# Altium integrated library Altium_WCAP-CSGP (rev21d).IntLib: 945 symbols (part 8 of 17)
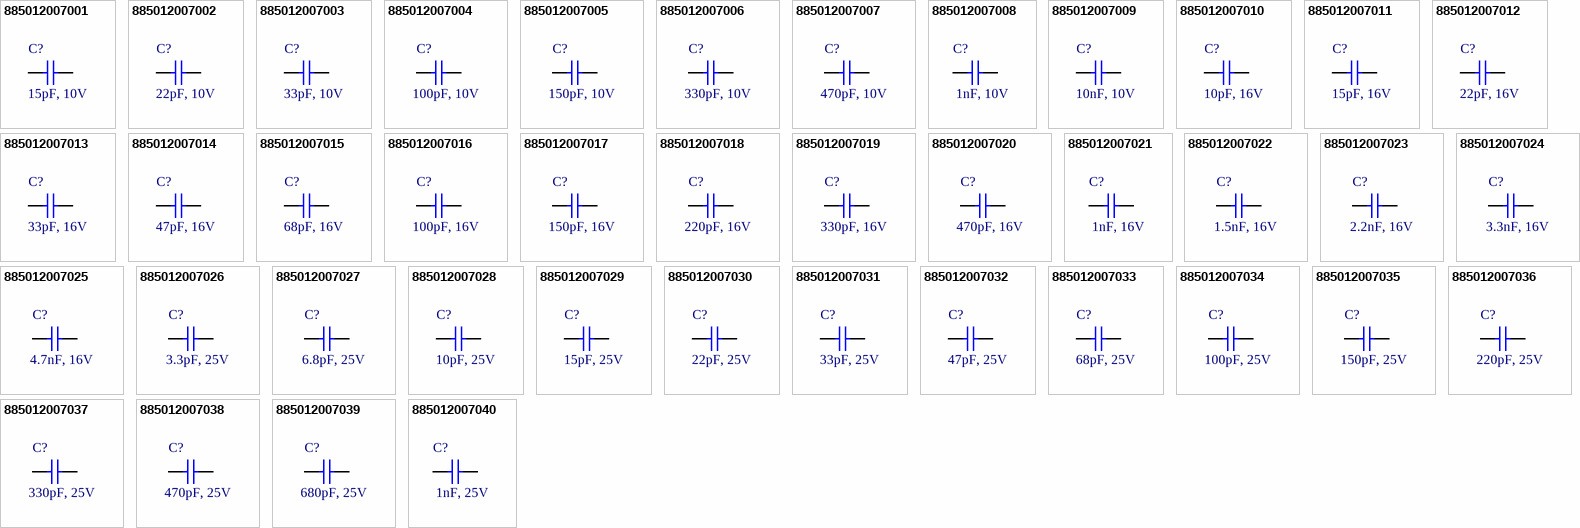
[diagram p34: symbols 885012007001 to 885012007040]

## 885012007028
designator C?, comment 10pF, 25V
WCAP-CSGP Multilayer Ceramic Chip Capacitor, General Purpose, size 0805, NP0, 10pF, 25V; Manufacturer Part Number: 885012007028; Manufacturer: Wurth Elektronik; Rated Voltage: 25VDC; Isolation Resistance  min.: 10GOhm; Capacitance Tolerance: +/-5%; Technical Reference: NP00805100J025DFCT10000; Q-Factor min.: 400+20C; ComponentLink1Description: Manufacturer; ComponentLink1URL: http://www.we-online.de; ComponentLink2Description: Datasheet; ComponentLink2URL: https://www.we-online.com/catalog/datasheet/885012007028.pdf; Operating Temperature: -55 to +125degC; Packaging: Tape and Reel; Published Date: April 2021; Ceramic Type: NP0; Dissipation Factor max.: -; Height: 0.6mm; Mounting Technology: SMT; Size: 0805; Capacitance: 10pF
footprint WCAP-CSGP_0805_H=0.6mm_Wave
footprint WCAP-CSGP_0805_H=0.6mm_Reflow
pins: 1, 2

## 885012007029
designator C?, comment 15pF, 25V
WCAP-CSGP Multilayer Ceramic Chip Capacitor, General Purpose, size 0805, NP0, 15pF, 25V; Manufacturer Part Number: 885012007029; Manufacturer: Wurth Elektronik; Rated Voltage: 25VDC; Isolation Resistance  min.: 10GOhm; Capacitance Tolerance: +/-5%; Technical Reference: NP00805150J025DFCT10000; Q-Factor min.: 400+20C; ComponentLink1Description: Manufacturer; ComponentLink1URL: http://www.we-online.de; ComponentLink2Description: Datasheet; ComponentLink2URL: https://www.we-online.com/catalog/datasheet/885012007029.pdf; Operating Temperature: -55 to +125degC; Packaging: Tape and Reel; Published Date: April 2021; Ceramic Type: NP0; Dissipation Factor max.: -; Height: 0.6mm; Mounting Technology: SMT; Size: 0805; Capacitance: 15pF
footprint WCAP-CSGP_0805_H=0.6mm_Wave
footprint WCAP-CSGP_0805_H=0.6mm_Reflow
pins: 1, 2

## 885012007030
designator C?, comment 22pF, 25V
WCAP-CSGP Multilayer Ceramic Chip Capacitor, General Purpose, size 0805, NP0, 22pF, 25V; Manufacturer Part Number: 885012007030; Manufacturer: Wurth Elektronik; Rated Voltage: 25VDC; Isolation Resistance  min.: 10GOhm; Capacitance Tolerance: +/-5%; Technical Reference: NP00805220J025DFCT10000; Q-Factor min.: 400+20C; ComponentLink1Description: Manufacturer; ComponentLink1URL: http://www.we-online.de; ComponentLink2Description: Datasheet; ComponentLink2URL: https://www.we-online.com/catalog/datasheet/885012007030.pdf; Operating Temperature: -55 to +125degC; Packaging: Tape and Reel; Published Date: April 2021; Ceramic Type: NP0; Dissipation Factor max.: -; Height: 0.6mm; Mounting Technology: SMT; Size: 0805; Capacitance: 22pF
footprint WCAP-CSGP_0805_H=0.6mm_Wave
footprint WCAP-CSGP_0805_H=0.6mm_Reflow
pins: 1, 2

## 885012007031
designator C?, comment 33pF, 25V
WCAP-CSGP Multilayer Ceramic Chip Capacitor, General Purpose, size 0805, NP0, 33pF, 25V; Manufacturer Part Number: 885012007031; Manufacturer: Wurth Elektronik; Rated Voltage: 25VDC; Isolation Resistance  min.: 10GOhm; Capacitance Tolerance: +/-5%; Technical Reference: NP00805330J025DFCT10000; Q-Factor min.: 1000; ComponentLink1Description: Manufacturer; ComponentLink1URL: http://www.we-online.de; ComponentLink2Description: Datasheet; ComponentLink2URL: https://www.we-online.com/catalog/datasheet/885012007031.pdf; Operating Temperature: -55 to +125degC; Packaging: Tape and Reel; Published Date: April 2021; Ceramic Type: NP0; Dissipation Factor max.: -; Height: 0.6mm; Mounting Technology: SMT; Size: 0805; Capacitance: 33pF
footprint WCAP-CSGP_0805_H=0.6mm_Wave
footprint WCAP-CSGP_0805_H=0.6mm_Reflow
pins: 1, 2

## 885012007032
designator C?, comment 47pF, 25V
WCAP-CSGP Multilayer Ceramic Chip Capacitor, General Purpose, size 0805, NP0, 47pF, 25V; Manufacturer Part Number: 885012007032; Manufacturer: Wurth Elektronik; Rated Voltage: 25VDC; Isolation Resistance  min.: 10GOhm; Capacitance Tolerance: +/-5%; Technical Reference: NP00805470J025DFCT10000; Q-Factor min.: 1000; ComponentLink1Description: Manufacturer; ComponentLink1URL: http://www.we-online.de; ComponentLink2Description: Datasheet; ComponentLink2URL: https://www.we-online.com/catalog/datasheet/885012007032.pdf; Operating Temperature: -55 to +125degC; Packaging: Tape and Reel; Published Date: April 2021; Ceramic Type: NP0; Dissipation Factor max.: -; Height: 0.6mm; Mounting Technology: SMT; Size: 0805; Capacitance: 47pF
footprint WCAP-CSGP_0805_H=0.6mm_Wave
footprint WCAP-CSGP_0805_H=0.6mm_Reflow
pins: 1, 2

## 885012007033
designator C?, comment 68pF, 25V
WCAP-CSGP Multilayer Ceramic Chip Capacitor, General Purpose, size 0805, NP0, 68pF, 25V; Manufacturer Part Number: 885012007033; Manufacturer: Wurth Elektronik; Rated Voltage: 25VDC; Isolation Resistance  min.: 10GOhm; Capacitance Tolerance: +/-5%; Technical Reference: NP00805680J025DFCT10000; Q-Factor min.: 1000; ComponentLink1Description: Manufacturer; ComponentLink1URL: http://www.we-online.de; ComponentLink2Description: Datasheet; ComponentLink2URL: https://www.we-online.com/catalog/datasheet/885012007033.pdf; Operating Temperature: -55 to +125degC; Packaging: Tape and Reel; Published Date: April 2021; Ceramic Type: NP0; Dissipation Factor max.: -; Height: 0.6mm; Mounting Technology: SMT; Size: 0805; Capacitance: 68pF
footprint WCAP-CSGP_0805_H=0.6mm_Wave
footprint WCAP-CSGP_0805_H=0.6mm_Reflow
pins: 1, 2

## 885012007034
designator C?, comment 100pF, 25V
WCAP-CSGP Multilayer Ceramic Chip Capacitor, General Purpose, size 0805, NP0, 100pF, 25V; Manufacturer Part Number: 885012007034; Manufacturer: Wurth Elektronik; Rated Voltage: 25VDC; Isolation Resistance  min.: 10GOhm; Capacitance Tolerance: +/-5%; Technical Reference: NP00805101J025DFCT10000; Q-Factor min.: 1000; ComponentLink1Description: Manufacturer; ComponentLink1URL: http://www.we-online.de; ComponentLink2Description: Datasheet; ComponentLink2URL: https://www.we-online.com/catalog/datasheet/885012007034.pdf; Operating Temperature: -55 to +125degC; Packaging: Tape and Reel; Published Date: April 2021; Ceramic Type: NP0; Dissipation Factor max.: -; Height: 0.6mm; Mounting Technology: SMT; Size: 0805; Capacitance: 100pF
footprint WCAP-CSGP_0805_H=0.6mm_Wave
footprint WCAP-CSGP_0805_H=0.6mm_Reflow
pins: 1, 2

## 885012007035
designator C?, comment 150pF, 25V
WCAP-CSGP Multilayer Ceramic Chip Capacitor, General Purpose, size 0805, NP0, 150pF, 25V; Manufacturer Part Number: 885012007035; Manufacturer: Wurth Elektronik; Rated Voltage: 25VDC; Isolation Resistance  min.: 10GOhm; Capacitance Tolerance: +/-5%; Technical Reference: NP00805151J025DFCT10000; Q-Factor min.: 1000; ComponentLink1Description: Manufacturer; ComponentLink1URL: http://www.we-online.de; ComponentLink2Description: Datasheet; ComponentLink2URL: https://www.we-online.com/catalog/datasheet/885012007035.pdf; Operating Temperature: -55 to +125degC; Packaging: Tape and Reel; Published Date: April 2021; Ceramic Type: NP0; Dissipation Factor max.: -; Height: 0.6mm; Mounting Technology: SMT; Size: 0805; Capacitance: 150pF
footprint WCAP-CSGP_0805_H=0.6mm_Wave
footprint WCAP-CSGP_0805_H=0.6mm_Reflow
pins: 1, 2

## 885012007036
designator C?, comment 220pF, 25V
WCAP-CSGP Multilayer Ceramic Chip Capacitor, General Purpose, size 0805, NP0, 220pF, 25V; Manufacturer Part Number: 885012007036; Manufacturer: Wurth Elektronik; Rated Voltage: 25VDC; Isolation Resistance  min.: 10GOhm; Capacitance Tolerance: +/-5%; Technical Reference: NP00805221J025DFCT10000; Q-Factor min.: 1000; ComponentLink1Description: Manufacturer; ComponentLink1URL: http://www.we-online.de; ComponentLink2Description: Datasheet; ComponentLink2URL: https://www.we-online.com/catalog/datasheet/885012007036.pdf; Operating Temperature: -55 to +125degC; Packaging: Tape and Reel; Published Date: April 2021; Ceramic Type: NP0; Dissipation Factor max.: -; Height: 0.6mm; Mounting Technology: SMT; Size: 0805; Capacitance: 220pF
footprint WCAP-CSGP_0805_H=0.6mm_Wave
footprint WCAP-CSGP_0805_H=0.6mm_Reflow
pins: 1, 2

## 885012007037
designator C?, comment 330pF, 25V
WCAP-CSGP Multilayer Ceramic Chip Capacitor, General Purpose, size 0805, NP0, 330pF, 25V; Manufacturer Part Number: 885012007037; Manufacturer: Wurth Elektronik; Rated Voltage: 25VDC; Isolation Resistance  min.: 10GOhm; Capacitance Tolerance: +/-5%; Technical Reference: NP00805331J025DFCT10000; Q-Factor min.: 1000; ComponentLink1Description: Manufacturer; ComponentLink1URL: http://www.we-online.de; ComponentLink2Description: Datasheet; ComponentLink2URL: https://www.we-online.com/catalog/datasheet/885012007037.pdf; Operating Temperature: -55 to +125degC; Packaging: Tape and Reel; Published Date: April 2021; Ceramic Type: NP0; Dissipation Factor max.: -; Height: 0.6mm; Mounting Technology: SMT; Size: 0805; Capacitance: 330pF
footprint WCAP-CSGP_0805_H=0.6mm_Wave
footprint WCAP-CSGP_0805_H=0.6mm_Reflow
pins: 1, 2

## 885012007038
designator C?, comment 470pF, 25V
WCAP-CSGP Multilayer Ceramic Chip Capacitor, General Purpose, size 0805, NP0, 470pF, 25V; Manufacturer Part Number: 885012007038; Manufacturer: Wurth Elektronik; Rated Voltage: 25VDC; Isolation Resistance  min.: 10GOhm; Capacitance Tolerance: +/-5%; Technical Reference: NP00805471J025DFCT10000; Q-Factor min.: 1000; ComponentLink1Description: Manufacturer; ComponentLink1URL: http://www.we-online.de; ComponentLink2Description: Datasheet; ComponentLink2URL: https://www.we-online.com/catalog/datasheet/885012007038.pdf; Operating Temperature: -55 to +125degC; Packaging: Tape and Reel; Published Date: April 2021; Ceramic Type: NP0; Dissipation Factor max.: -; Height: 0.8mm; Mounting Technology: SMT; Size: 0805; Capacitance: 470pF
footprint WCAP-CSGP_0805_H=0.8mm_Wave
footprint WCAP-CSGP_0805_H=0.8mm_Reflow
pins: 1, 2

## 885012007039
designator C?, comment 680pF, 25V
WCAP-CSGP Multilayer Ceramic Chip Capacitor, General Purpose, size 0805, NP0, 680pF, 25V; Manufacturer Part Number: 885012007039; Manufacturer: Wurth Elektronik; Rated Voltage: 25VDC; Isolation Resistance  min.: 10GOhm; Capacitance Tolerance: +/-5%; Technical Reference: NP00805681J025DFCT10000; Q-Factor min.: 1000; ComponentLink1Description: Manufacturer; ComponentLink1URL: http://www.we-online.de; ComponentLink2Description: Datasheet; ComponentLink2URL: https://www.we-online.com/catalog/datasheet/885012007039.pdf; Operating Temperature: -55 to +125degC; Packaging: Tape and Reel; Published Date: April 2021; Ceramic Type: NP0; Dissipation Factor max.: -; Height: 0.8mm; Mounting Technology: SMT; Size: 0805; Capacitance: 680pF
footprint WCAP-CSGP_0805_H=0.8mm_Wave
footprint WCAP-CSGP_0805_H=0.8mm_Reflow
pins: 1, 2

## 885012007040
designator C?, comment 1nF, 25V
WCAP-CSGP Multilayer Ceramic Chip Capacitor, General Purpose, size 0805, NP0, 1nF, 25V; Manufacturer Part Number: 885012007040; Manufacturer: Wurth Elektronik; Rated Voltage: 25VDC; Isolation Resistance  min.: 10GOhm; Capacitance Tolerance: +/-5%; Technical Reference: NP00805102J025DFCT10000; Q-Factor min.: 1000; ComponentLink1Description: Manufacturer; ComponentLink1URL: http://www.we-online.de; ComponentLink2Description: Datasheet; ComponentLink2URL: https://www.we-online.com/catalog/datasheet/885012007040.pdf; Operating Temperature: -55 to +125degC; Packaging: Tape and Reel; Published Date: April 2021; Ceramic Type: NP0; Dissipation Factor max.: -; Height: 0.8mm; Mounting Technology: SMT; Size: 0805; Capacitance: 1nF
footprint WCAP-CSGP_0805_H=0.8mm_Wave
footprint WCAP-CSGP_0805_H=0.8mm_Reflow
pins: 1, 2

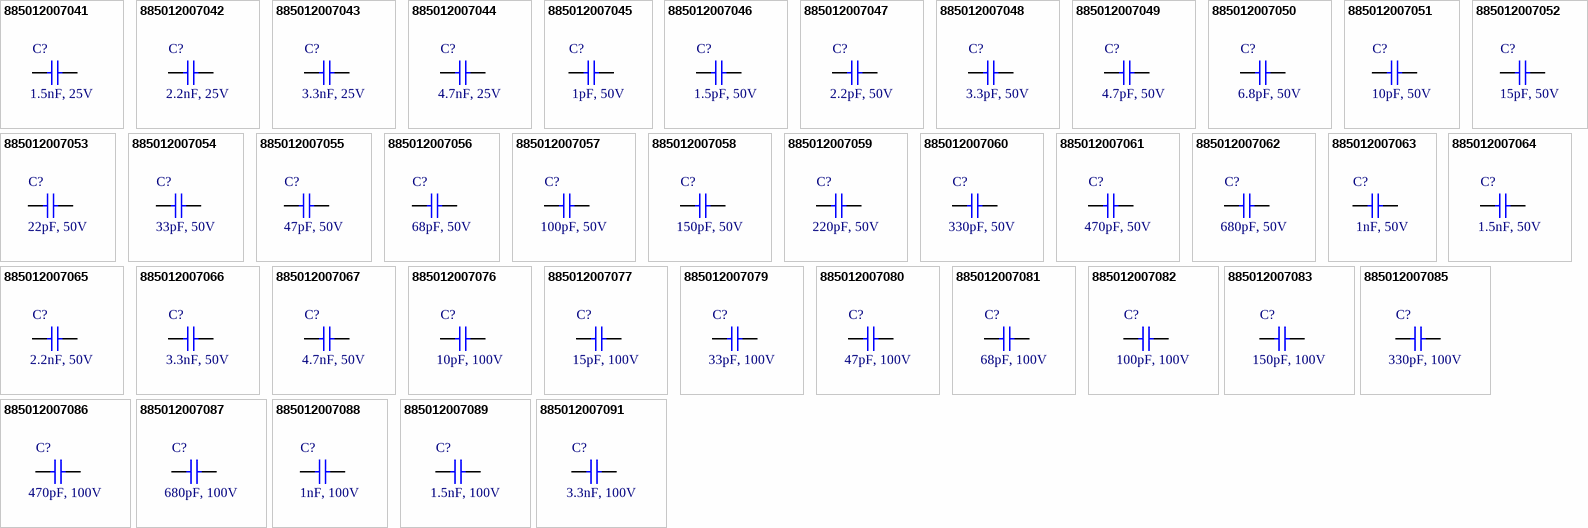
[diagram p12: symbols 885012007041 to 885012007091]

## 885012007041
designator C?, comment 1.5nF, 25V
WCAP-CSGP Multilayer Ceramic Chip Capacitor, General Purpose, size 0805, NP0, 1.5nF, 25V; Manufacturer Part Number: 885012007041; Manufacturer: Wurth Elektronik; Rated Voltage: 25VDC; Isolation Resistance  min.: 10GOhm; Capacitance Tolerance: +/-5%; Technical Reference: NP00805152J025DFCT10000; Q-Factor min.: 1000; ComponentLink1Description: Manufacturer; ComponentLink1URL: http://www.we-online.de; ComponentLink2Description: Datasheet; ComponentLink2URL: https://www.we-online.com/catalog/datasheet/885012007041.pdf; Operating Temperature: -55 to +125degC; Packaging: Tape and Reel; Published Date: April 2021; Ceramic Type: NP0; Dissipation Factor max.: -; Height: 0.8mm; Mounting Technology: SMT; Size: 0805; Capacitance: 1.5nF
footprint WCAP-CSGP_0805_H=0.8mm_Wave
footprint WCAP-CSGP_0805_H=0.8mm_Reflow
pins: 1, 2

## 885012007042
designator C?, comment 2.2nF, 25V
WCAP-CSGP Multilayer Ceramic Chip Capacitor, General Purpose, size 0805, NP0, 2.2nF, 25V; Manufacturer Part Number: 885012007042; Manufacturer: Wurth Elektronik; Rated Voltage: 25VDC; Isolation Resistance  min.: 10GOhm; Capacitance Tolerance: +/-5%; Technical Reference: NP00805222J025DFCT10000; Q-Factor min.: 1000; ComponentLink1Description: Manufacturer; ComponentLink1URL: http://www.we-online.de; ComponentLink2Description: Datasheet; ComponentLink2URL: https://www.we-online.com/catalog/datasheet/885012007042.pdf; Operating Temperature: -55 to +125degC; Packaging: Tape and Reel; Published Date: April 2021; Ceramic Type: NP0; Dissipation Factor max.: -; Height: 0.8mm; Mounting Technology: SMT; Size: 0805; Capacitance: 2.2nF
footprint WCAP-CSGP_0805_H=0.8mm_Wave
footprint WCAP-CSGP_0805_H=0.8mm_Reflow
pins: 1, 2

## 885012007043
designator C?, comment 3.3nF, 25V
WCAP-CSGP Multilayer Ceramic Chip Capacitor, General Purpose, size 0805, NP0, 3.3nF, 25V; Manufacturer Part Number: 885012007043; Manufacturer: Wurth Elektronik; Rated Voltage: 25VDC; Isolation Resistance  min.: 10GOhm; Capacitance Tolerance: +/-5%; Technical Reference: NP00805332J025DFCT10000; Q-Factor min.: 1000; ComponentLink1Description: Manufacturer; ComponentLink1URL: http://www.we-online.de; ComponentLink2Description: Datasheet; ComponentLink2URL: https://www.we-online.com/catalog/datasheet/885012007043.pdf; Operating Temperature: -55 to +125degC; Packaging: Tape and Reel; Published Date: April 2021; Ceramic Type: NP0; Dissipation Factor max.: -; Height: 1.25mm; Mounting Technology: SMT; Size: 0805; Capacitance: 3.3nF
footprint WCAP-CSGP_0805_H=1.25mm
pins: 1, 2

## 885012007044
designator C?, comment 4.7nF, 25V
WCAP-CSGP Multilayer Ceramic Chip Capacitor, General Purpose, size 0805, NP0, 4.7nF, 25V; Manufacturer Part Number: 885012007044; Manufacturer: Wurth Elektronik; Rated Voltage: 25VDC; Isolation Resistance  min.: 10GOhm; Capacitance Tolerance: +/-5%; Technical Reference: NP00805472J025DFCT10000; Q-Factor min.: 1000; ComponentLink1Description: Manufacturer; ComponentLink1URL: http://www.we-online.de; ComponentLink2Description: Datasheet; ComponentLink2URL: https://www.we-online.com/catalog/datasheet/885012007044.pdf; Operating Temperature: -55 to +125degC; Packaging: Tape and Reel; Published Date: April 2021; Ceramic Type: NP0; Dissipation Factor max.: -; Height: 1.25mm; Mounting Technology: SMT; Size: 0805; Capacitance: 4.7nF
footprint WCAP-CSGP_0805_H=1.25mm
pins: 1, 2

## 885012007045
designator C?, comment 1pF, 50V
WCAP-CSGP Multilayer Ceramic Chip Capacitor, General Purpose, size 0805, NP0, 1pF, 50V; Manufacturer Part Number: 885012007045; Manufacturer: Wurth Elektronik; Rated Voltage: 50VDC; Isolation Resistance  min.: 10GOhm; Capacitance Tolerance: +/-0.5pF; Technical Reference: NP008051R0D050DFCT10000; Q-Factor min.: 400+20C; ComponentLink1Description: Manufacturer; ComponentLink1URL: http://www.we-online.de; ComponentLink2Description: Datasheet; ComponentLink2URL: https://www.we-online.com/catalog/datasheet/885012007045.pdf; Operating Temperature: -55 to +125degC; Packaging: Tape and Reel; Published Date: April 2021; Ceramic Type: NP0; Dissipation Factor max.: -; Height: 0.6mm; Mounting Technology: SMT; Size: 0805; Capacitance: 1pF
footprint WCAP-CSGP_0805_H=0.6mm_Wave
footprint WCAP-CSGP_0805_H=0.6mm_Reflow
pins: 1, 2

## 885012007046
designator C?, comment 1.5pF, 50V
WCAP-CSGP Multilayer Ceramic Chip Capacitor, General Purpose, size 0805, NP0, 1.5pF, 50V; Manufacturer Part Number: 885012007046; Manufacturer: Wurth Elektronik; Rated Voltage: 50VDC; Isolation Resistance  min.: 10GOhm; Capacitance Tolerance: +/-0.5pF; Technical Reference: NP008051R5D050DFCT10000; Q-Factor min.: 400+20C; ComponentLink1Description: Manufacturer; ComponentLink1URL: http://www.we-online.de; ComponentLink2Description: Datasheet; ComponentLink2URL: https://www.we-online.com/catalog/datasheet/885012007046.pdf; Operating Temperature: -55 to +125degC; Packaging: Tape and Reel; Published Date: April 2021; Ceramic Type: NP0; Dissipation Factor max.: -; Height: 0.6mm; Mounting Technology: SMT; Size: 0805; Capacitance: 1.5pF
footprint WCAP-CSGP_0805_H=0.6mm_Wave
footprint WCAP-CSGP_0805_H=0.6mm_Reflow
pins: 1, 2

## 885012007047
designator C?, comment 2.2pF, 50V
WCAP-CSGP Multilayer Ceramic Chip Capacitor, General Purpose, size 0805, NP0, 2.2pF, 50V; Manufacturer Part Number: 885012007047; Manufacturer: Wurth Elektronik; Rated Voltage: 50VDC; Isolation Resistance  min.: 10GOhm; Capacitance Tolerance: +/-0.5pF; Technical Reference: NP008052R2D050DFCT10000; Q-Factor min.: 400+20C; ComponentLink1Description: Manufacturer; ComponentLink1URL: http://www.we-online.de; ComponentLink2Description: Datasheet; ComponentLink2URL: https://www.we-online.com/catalog/datasheet/885012007047.pdf; Operating Temperature: -55 to +125degC; Packaging: Tape and Reel; Published Date: April 2021; Ceramic Type: NP0; Dissipation Factor max.: -; Height: 0.6mm; Mounting Technology: SMT; Size: 0805; Capacitance: 2.2pF
footprint WCAP-CSGP_0805_H=0.6mm_Wave
footprint WCAP-CSGP_0805_H=0.6mm_Reflow
pins: 1, 2

## 885012007048
designator C?, comment 3.3pF, 50V
WCAP-CSGP Multilayer Ceramic Chip Capacitor, General Purpose, size 0805, NP0, 3.3pF, 50V; Manufacturer Part Number: 885012007048; Manufacturer: Wurth Elektronik; Rated Voltage: 50VDC; Isolation Resistance  min.: 10GOhm; Capacitance Tolerance: +/-0.5pF; Technical Reference: NP008053R3D050DFCT10000; Q-Factor min.: 400+20C; ComponentLink1Description: Manufacturer; ComponentLink1URL: http://www.we-online.de; ComponentLink2Description: Datasheet; ComponentLink2URL: https://www.we-online.com/catalog/datasheet/885012007048.pdf; Operating Temperature: -55 to +125degC; Packaging: Tape and Reel; Published Date: April 2021; Ceramic Type: NP0; Dissipation Factor max.: -; Height: 0.6mm; Mounting Technology: SMT; Size: 0805; Capacitance: 3.3pF
footprint WCAP-CSGP_0805_H=0.6mm_Wave
footprint WCAP-CSGP_0805_H=0.6mm_Reflow
pins: 1, 2

## 885012007049
designator C?, comment 4.7pF, 50V
WCAP-CSGP Multilayer Ceramic Chip Capacitor, General Purpose, size 0805, NP0, 4.7pF, 50V; Manufacturer Part Number: 885012007049; Manufacturer: Wurth Elektronik; Rated Voltage: 50VDC; Isolation Resistance  min.: 10GOhm; Capacitance Tolerance: +/-0.5pF; Technical Reference: NP008054R7D050DFCT10000; Q-Factor min.: 400+20C; ComponentLink1Description: Manufacturer; ComponentLink1URL: http://www.we-online.de; ComponentLink2Description: Datasheet; ComponentLink2URL: https://www.we-online.com/catalog/datasheet/885012007049.pdf; Operating Temperature: -55 to +125degC; Packaging: Tape and Reel; Published Date: April 2021; Ceramic Type: NP0; Dissipation Factor max.: -; Height: 0.6mm; Mounting Technology: SMT; Size: 0805; Capacitance: 4.7pF
footprint WCAP-CSGP_0805_H=0.6mm_Wave
footprint WCAP-CSGP_0805_H=0.6mm_Reflow
pins: 1, 2

## 885012007050
designator C?, comment 6.8pF, 50V
WCAP-CSGP Multilayer Ceramic Chip Capacitor, General Purpose, size 0805, NP0, 6.8pF, 50V; Manufacturer Part Number: 885012007050; Manufacturer: Wurth Elektronik; Rated Voltage: 50VDC; Isolation Resistance  min.: 10GOhm; Capacitance Tolerance: +/-0.5pF; Technical Reference: NP008056R8D050DFCT10000; Q-Factor min.: 400+20C; ComponentLink1Description: Manufacturer; ComponentLink1URL: http://www.we-online.de; ComponentLink2Description: Datasheet; ComponentLink2URL: https://www.we-online.com/catalog/datasheet/885012007050.pdf; Operating Temperature: -55 to +125degC; Packaging: Tape and Reel; Published Date: April 2021; Ceramic Type: NP0; Dissipation Factor max.: -; Height: 0.6mm; Mounting Technology: SMT; Size: 0805; Capacitance: 6.8pF
footprint WCAP-CSGP_0805_H=0.6mm_Wave
footprint WCAP-CSGP_0805_H=0.6mm_Reflow
pins: 1, 2

## 885012007051
designator C?, comment 10pF, 50V
WCAP-CSGP Multilayer Ceramic Chip Capacitor, General Purpose, size 0805, NP0, 10pF, 50V; Manufacturer Part Number: 885012007051; Manufacturer: Wurth Elektronik; Rated Voltage: 50VDC; Isolation Resistance  min.: 10GOhm; Capacitance Tolerance: +/-5%; Technical Reference: NP00805100J050DFCT10000; Q-Factor min.: 400+20C; ComponentLink1Description: Manufacturer; ComponentLink1URL: http://www.we-online.de; ComponentLink2Description: Datasheet; ComponentLink2URL: https://www.we-online.com/catalog/datasheet/885012007051.pdf; Operating Temperature: -55 to +125degC; Packaging: Tape and Reel; Published Date: April 2021; Ceramic Type: NP0; Dissipation Factor max.: -; Height: 0.6mm; Mounting Technology: SMT; Size: 0805; Capacitance: 10pF
footprint WCAP-CSGP_0805_H=0.6mm_Wave
footprint WCAP-CSGP_0805_H=0.6mm_Reflow
pins: 1, 2

## 885012007052
designator C?, comment 15pF, 50V
WCAP-CSGP Multilayer Ceramic Chip Capacitor, General Purpose, size 0805, NP0, 15pF, 50V; Manufacturer Part Number: 885012007052; Manufacturer: Wurth Elektronik; Rated Voltage: 50VDC; Isolation Resistance  min.: 10GOhm; Capacitance Tolerance: +/-5%; Technical Reference: NP00805150J050DFCT10000; Q-Factor min.: 400+20C; ComponentLink1Description: Manufacturer; ComponentLink1URL: http://www.we-online.de; ComponentLink2Description: Datasheet; ComponentLink2URL: https://www.we-online.com/catalog/datasheet/885012007052.pdf; Operating Temperature: -55 to +125degC; Packaging: Tape and Reel; Published Date: April 2021; Ceramic Type: NP0; Dissipation Factor max.: -; Height: 0.6mm; Mounting Technology: SMT; Size: 0805; Capacitance: 15pF
footprint WCAP-CSGP_0805_H=0.6mm_Wave
footprint WCAP-CSGP_0805_H=0.6mm_Reflow
pins: 1, 2

## 885012007053
designator C?, comment 22pF, 50V
WCAP-CSGP Multilayer Ceramic Chip Capacitor, General Purpose, size 0805, NP0, 22pF, 50V; Manufacturer Part Number: 885012007053; Manufacturer: Wurth Elektronik; Rated Voltage: 50VDC; Isolation Resistance  min.: 10GOhm; Capacitance Tolerance: +/-5%; Technical Reference: NP00805220J050DFCT10000; Q-Factor min.: 400+20C; ComponentLink1Description: Manufacturer; ComponentLink1URL: http://www.we-online.de; ComponentLink2Description: Datasheet; ComponentLink2URL: https://www.we-online.com/catalog/datasheet/885012007053.pdf; Operating Temperature: -55 to +125degC; Packaging: Tape and Reel; Published Date: April 2021; Ceramic Type: NP0; Dissipation Factor max.: -; Height: 0.6mm; Mounting Technology: SMT; Size: 0805; Capacitance: 22pF
footprint WCAP-CSGP_0805_H=0.6mm_Wave
footprint WCAP-CSGP_0805_H=0.6mm_Reflow
pins: 1, 2

## 885012007054
designator C?, comment 33pF, 50V
WCAP-CSGP Multilayer Ceramic Chip Capacitor, General Purpose, size 0805, NP0, 33pF, 50V; Manufacturer Part Number: 885012007054; Manufacturer: Wurth Elektronik; Rated Voltage: 50VDC; Isolation Resistance  min.: 10GOhm; Capacitance Tolerance: +/-5%; Technical Reference: NP00805330J050DFCT10000; Q-Factor min.: 1000; ComponentLink1Description: Manufacturer; ComponentLink1URL: http://www.we-online.de; ComponentLink2Description: Datasheet; ComponentLink2URL: https://www.we-online.com/catalog/datasheet/885012007054.pdf; Operating Temperature: -55 to +125degC; Packaging: Tape and Reel; Published Date: April 2021; Ceramic Type: NP0; Dissipation Factor max.: -; Height: 0.6mm; Mounting Technology: SMT; Size: 0805; Capacitance: 33pF
footprint WCAP-CSGP_0805_H=0.6mm_Wave
footprint WCAP-CSGP_0805_H=0.6mm_Reflow
pins: 1, 2

## 885012007055
designator C?, comment 47pF, 50V
WCAP-CSGP Multilayer Ceramic Chip Capacitor, General Purpose, size 0805, NP0, 47pF, 50V; Manufacturer Part Number: 885012007055; Manufacturer: Wurth Elektronik; Rated Voltage: 50VDC; Isolation Resistance  min.: 10GOhm; Capacitance Tolerance: +/-5%; Technical Reference: NP00805470J050DFCT10000; Q-Factor min.: 1000; ComponentLink1Description: Manufacturer; ComponentLink1URL: http://www.we-online.de; ComponentLink2Description: Datasheet; ComponentLink2URL: https://www.we-online.com/catalog/datasheet/885012007055.pdf; Operating Temperature: -55 to +125degC; Packaging: Tape and Reel; Published Date: April 2021; Ceramic Type: NP0; Dissipation Factor max.: -; Height: 0.6mm; Mounting Technology: SMT; Size: 0805; Capacitance: 47pF
footprint WCAP-CSGP_0805_H=0.6mm_Wave
footprint WCAP-CSGP_0805_H=0.6mm_Reflow
pins: 1, 2

## 885012007056
designator C?, comment 68pF, 50V
WCAP-CSGP Multilayer Ceramic Chip Capacitor, General Purpose, size 0805, NP0, 68pF, 50V; Manufacturer Part Number: 885012007056; Manufacturer: Wurth Elektronik; Rated Voltage: 50VDC; Isolation Resistance  min.: 10GOhm; Capacitance Tolerance: +/-5%; Technical Reference: NP00805680J050DFCT10000; Q-Factor min.: 1000; ComponentLink1Description: Manufacturer; ComponentLink1URL: http://www.we-online.de; ComponentLink2Description: Datasheet; ComponentLink2URL: https://www.we-online.com/catalog/datasheet/885012007056.pdf; Operating Temperature: -55 to +125degC; Packaging: Tape and Reel; Published Date: April 2021; Ceramic Type: NP0; Dissipation Factor max.: -; Height: 0.6mm; Mounting Technology: SMT; Size: 0805; Capacitance: 68pF
footprint WCAP-CSGP_0805_H=0.6mm_Wave
footprint WCAP-CSGP_0805_H=0.6mm_Reflow
pins: 1, 2

## 885012007057
designator C?, comment 100pF, 50V
WCAP-CSGP Multilayer Ceramic Chip Capacitor, General Purpose, size 0805, NP0, 100pF, 50V; Manufacturer Part Number: 885012007057; Manufacturer: Wurth Elektronik; Rated Voltage: 50VDC; Isolation Resistance  min.: 10GOhm; Capacitance Tolerance: +/-5%; Technical Reference: NP00805101J050DFCT10000; Q-Factor min.: 1000; ComponentLink1Description: Manufacturer; ComponentLink1URL: http://www.we-online.de; ComponentLink2Description: Datasheet; ComponentLink2URL: https://www.we-online.com/catalog/datasheet/885012007057.pdf; Operating Temperature: -55 to +125degC; Packaging: Tape and Reel; Published Date: April 2021; Ceramic Type: NP0; Dissipation Factor max.: -; Height: 0.6mm; Mounting Technology: SMT; Size: 0805; Capacitance: 100pF
footprint WCAP-CSGP_0805_H=0.6mm_Wave
footprint WCAP-CSGP_0805_H=0.6mm_Reflow
pins: 1, 2

## 885012007058
designator C?, comment 150pF, 50V
WCAP-CSGP Multilayer Ceramic Chip Capacitor, General Purpose, size 0805, NP0, 150pF, 50V; Manufacturer Part Number: 885012007058; Manufacturer: Wurth Elektronik; Rated Voltage: 50VDC; Isolation Resistance  min.: 10GOhm; Capacitance Tolerance: +/-5%; Technical Reference: NP00805151J050DFCT10000; Q-Factor min.: 1000; ComponentLink1Description: Manufacturer; ComponentLink1URL: http://www.we-online.de; ComponentLink2Description: Datasheet; ComponentLink2URL: https://www.we-online.com/catalog/datasheet/885012007058.pdf; Operating Temperature: -55 to +125degC; Packaging: Tape and Reel; Published Date: April 2021; Ceramic Type: NP0; Dissipation Factor max.: -; Height: 0.6mm; Mounting Technology: SMT; Size: 0805; Capacitance: 150pF
footprint WCAP-CSGP_0805_H=0.6mm_Wave
footprint WCAP-CSGP_0805_H=0.6mm_Reflow
pins: 1, 2

## 885012007059
designator C?, comment 220pF, 50V
WCAP-CSGP Multilayer Ceramic Chip Capacitor, General Purpose, size 0805, NP0, 220pF, 50V; Manufacturer Part Number: 885012007059; Manufacturer: Wurth Elektronik; Rated Voltage: 50VDC; Isolation Resistance  min.: 10GOhm; Capacitance Tolerance: +/-5%; Technical Reference: NP00805221J050DFCT10000; Q-Factor min.: 1000; ComponentLink1Description: Manufacturer; ComponentLink1URL: http://www.we-online.de; ComponentLink2Description: Datasheet; ComponentLink2URL: https://www.we-online.com/catalog/datasheet/885012007059.pdf; Operating Temperature: -55 to +125degC; Packaging: Tape and Reel; Published Date: April 2021; Ceramic Type: NP0; Dissipation Factor max.: -; Height: 0.6mm; Mounting Technology: SMT; Size: 0805; Capacitance: 220pF
footprint WCAP-CSGP_0805_H=0.6mm_Wave
footprint WCAP-CSGP_0805_H=0.6mm_Reflow
pins: 1, 2

## 885012007060
designator C?, comment 330pF, 50V
WCAP-CSGP Multilayer Ceramic Chip Capacitor, General Purpose, size 0805, NP0, 330pF, 50V; Manufacturer Part Number: 885012007060; Manufacturer: Wurth Elektronik; Rated Voltage: 50VDC; Isolation Resistance  min.: 10GOhm; Capacitance Tolerance: +/-5%; Technical Reference: NP00805331J050DFCT10000; Q-Factor min.: 1000; ComponentLink1Description: Manufacturer; ComponentLink1URL: http://www.we-online.de; ComponentLink2Description: Datasheet; ComponentLink2URL: https://www.we-online.com/catalog/datasheet/885012007060.pdf; Operating Temperature: -55 to +125degC; Packaging: Tape and Reel; Published Date: April 2021; Ceramic Type: NP0; Dissipation Factor max.: -; Height: 0.6mm; Mounting Technology: SMT; Size: 0805; Capacitance: 330pF
footprint WCAP-CSGP_0805_H=0.6mm_Wave
footprint WCAP-CSGP_0805_H=0.6mm_Reflow
pins: 1, 2

## 885012007061
designator C?, comment 470pF, 50V
WCAP-CSGP Multilayer Ceramic Chip Capacitor, General Purpose, size 0805, NP0, 470pF, 50V; Manufacturer Part Number: 885012007061; Manufacturer: Wurth Elektronik; Rated Voltage: 50VDC; Isolation Resistance  min.: 10GOhm; Capacitance Tolerance: +/-5%; Technical Reference: NP00805471J050DFCT10000; Q-Factor min.: 1000; ComponentLink1Description: Manufacturer; ComponentLink1URL: http://www.we-online.de; ComponentLink2Description: Datasheet; ComponentLink2URL: https://www.we-online.com/catalog/datasheet/885012007061.pdf; Operating Temperature: -55 to +125degC; Packaging: Tape and Reel; Published Date: April 2021; Ceramic Type: NP0; Dissipation Factor max.: -; Height: 0.8mm; Mounting Technology: SMT; Size: 0805; Capacitance: 470pF
footprint WCAP-CSGP_0805_H=0.8mm_Wave
footprint WCAP-CSGP_0805_H=0.8mm_Reflow
pins: 1, 2

## 885012007062
designator C?, comment 680pF, 50V
WCAP-CSGP Multilayer Ceramic Chip Capacitor, General Purpose, size 0805, NP0, 680pF, 50V; Manufacturer Part Number: 885012007062; Manufacturer: Wurth Elektronik; Rated Voltage: 50VDC; Isolation Resistance  min.: 10GOhm; Capacitance Tolerance: +/-5%; Technical Reference: NP00805681J050DFCT10000; Q-Factor min.: 1000; ComponentLink1Description: Manufacturer; ComponentLink1URL: http://www.we-online.de; ComponentLink2Description: Datasheet; ComponentLink2URL: https://www.we-online.com/catalog/datasheet/885012007062.pdf; Operating Temperature: -55 to +125degC; Packaging: Tape and Reel; Published Date: April 2021; Ceramic Type: NP0; Dissipation Factor max.: -; Height: 0.8mm; Mounting Technology: SMT; Size: 0805; Capacitance: 680pF
footprint WCAP-CSGP_0805_H=0.8mm_Wave
footprint WCAP-CSGP_0805_H=0.8mm_Reflow
pins: 1, 2

## 885012007063
designator C?, comment 1nF, 50V
WCAP-CSGP Multilayer Ceramic Chip Capacitor, General Purpose, size 0805, NP0, 1nF, 50V; Manufacturer Part Number: 885012007063; Manufacturer: Wurth Elektronik; Rated Voltage: 50VDC; Isolation Resistance  min.: 10GOhm; Capacitance Tolerance: +/-5%; Technical Reference: NP00805102J050DFCT10000; Q-Factor min.: 1000; ComponentLink1Description: Manufacturer; ComponentLink1URL: http://www.we-online.de; ComponentLink2Description: Datasheet; ComponentLink2URL: https://www.we-online.com/catalog/datasheet/885012007063.pdf; Operating Temperature: -55 to +125degC; Packaging: Tape and Reel; Published Date: April 2021; Ceramic Type: NP0; Dissipation Factor max.: -; Height: 0.8mm; Mounting Technology: SMT; Size: 0805; Capacitance: 1nF
footprint WCAP-CSGP_0805_H=0.8mm_Wave
footprint WCAP-CSGP_0805_H=0.8mm_Reflow
pins: 1, 2

## 885012007064
designator C?, comment 1.5nF, 50V
WCAP-CSGP Multilayer Ceramic Chip Capacitor, General Purpose, size 0805, NP0, 1.5nF, 50V; Manufacturer Part Number: 885012007064; Manufacturer: Wurth Elektronik; Rated Voltage: 50VDC; Isolation Resistance  min.: 10GOhm; Capacitance Tolerance: +/-5%; Technical Reference: NP00805152J050DFCT10000; Q-Factor min.: 1000; ComponentLink1Description: Manufacturer; ComponentLink1URL: http://www.we-online.de; ComponentLink2Description: Datasheet; ComponentLink2URL: https://www.we-online.com/catalog/datasheet/885012007064.pdf; Operating Temperature: -55 to +125degC; Packaging: Tape and Reel; Published Date: April 2021; Ceramic Type: NP0; Dissipation Factor max.: -; Height: 0.8mm; Mounting Technology: SMT; Size: 0805; Capacitance: 1.5nF
footprint WCAP-CSGP_0805_H=0.8mm_Wave
footprint WCAP-CSGP_0805_H=0.8mm_Reflow
pins: 1, 2

## 885012007065
designator C?, comment 2.2nF, 50V
WCAP-CSGP Multilayer Ceramic Chip Capacitor, General Purpose, size 0805, NP0, 2.2nF, 50V; Manufacturer Part Number: 885012007065; Manufacturer: Wurth Elektronik; Rated Voltage: 50VDC; Isolation Resistance  min.: 10GOhm; Capacitance Tolerance: +/-5%; Technical Reference: NP00805222J050DFCT10000; Q-Factor min.: 1000; ComponentLink1Description: Manufacturer; ComponentLink1URL: http://www.we-online.de; ComponentLink2Description: Datasheet; ComponentLink2URL: https://www.we-online.com/catalog/datasheet/885012007065.pdf; Operating Temperature: -55 to +125degC; Packaging: Tape and Reel; Published Date: April 2021; Ceramic Type: NP0; Dissipation Factor max.: -; Height: 0.8mm; Mounting Technology: SMT; Size: 0805; Capacitance: 2.2nF
footprint WCAP-CSGP_0805_H=0.8mm_Wave
footprint WCAP-CSGP_0805_H=0.8mm_Reflow
pins: 1, 2

## 885012007066
designator C?, comment 3.3nF, 50V
WCAP-CSGP Multilayer Ceramic Chip Capacitor, General Purpose, size 0805, NP0, 3.3nF, 50V; Manufacturer Part Number: 885012007066; Manufacturer: Wurth Elektronik; Rated Voltage: 50VDC; Isolation Resistance  min.: 10GOhm; Capacitance Tolerance: +/-5%; Technical Reference: NP00805332J050DFCT10000; Q-Factor min.: 1000; ComponentLink1Description: Manufacturer; ComponentLink1URL: http://www.we-online.de; ComponentLink2Description: Datasheet; ComponentLink2URL: https://www.we-online.com/catalog/datasheet/885012007066.pdf; Operating Temperature: -55 to +125degC; Packaging: Tape and Reel; Published Date: April 2021; Ceramic Type: NP0; Dissipation Factor max.: -; Height: 1.25mm; Mounting Technology: SMT; Size: 0805; Capacitance: 3.3nF
footprint WCAP-CSGP_0805_H=1.25mm
pins: 1, 2

## 885012007067
designator C?, comment 4.7nF, 50V
WCAP-CSGP Multilayer Ceramic Chip Capacitor, General Purpose, size 0805, NP0, 4.7nF, 50V; Manufacturer Part Number: 885012007067; Manufacturer: Wurth Elektronik; Rated Voltage: 50VDC; Isolation Resistance  min.: 10GOhm; Capacitance Tolerance: +/-5%; Technical Reference: NP00805472J050DFCT10000; Q-Factor min.: 1000; ComponentLink1Description: Manufacturer; ComponentLink1URL: http://www.we-online.de; ComponentLink2Description: Datasheet; ComponentLink2URL: https://www.we-online.com/catalog/datasheet/885012007067.pdf; Operating Temperature: -55 to +125degC; Packaging: Tape and Reel; Published Date: April 2021; Ceramic Type: NP0; Dissipation Factor max.: -; Height: 1.25mm; Mounting Technology: SMT; Size: 0805; Capacitance: 4.7nF
footprint WCAP-CSGP_0805_H=1.25mm
pins: 1, 2

## 885012007076
designator C?, comment 10pF, 100V
WCAP-CSGP Multilayer Ceramic Chip Capacitor, General Purpose, size 0805, NP0, 10pF, 100V; Manufacturer Part Number: 885012007076; Manufacturer: Wurth Elektronik; Rated Voltage: 100VDC; Isolation Resistance  min.: 10GOhm; Capacitance Tolerance: +/-5%; Technical Reference: NP00805100J100DFCT10000; Q-Factor min.: 400+20C; ComponentLink1Description: Manufacturer; ComponentLink1URL: http://www.we-online.de; ComponentLink2Description: Datasheet; ComponentLink2URL: https://www.we-online.com/catalog/datasheet/885012007076.pdf; Operating Temperature: -55 to +125degC; Packaging: Tape and Reel; Published Date: April 2021; Ceramic Type: NP0; Dissipation Factor max.: -; Height: 0.6mm; Mounting Technology: SMT; Size: 0805; Capacitance: 10pF
footprint WCAP-CSGP_0805_H=0.6mm_Wave
footprint WCAP-CSGP_0805_H=0.6mm_Reflow
pins: 1, 2

## 885012007077
designator C?, comment 15pF, 100V
WCAP-CSGP Multilayer Ceramic Chip Capacitor, General Purpose, size 0805, NP0, 15pF, 100V; Manufacturer Part Number: 885012007077; Manufacturer: Wurth Elektronik; Rated Voltage: 100VDC; Isolation Resistance  min.: 10GOhm; Capacitance Tolerance: +/-5%; Technical Reference: NP00805150J100DFCT10000; Q-Factor min.: 400+20C; ComponentLink1Description: Manufacturer; ComponentLink1URL: http://www.we-online.de; ComponentLink2Description: Datasheet; ComponentLink2URL: https://www.we-online.com/catalog/datasheet/885012007077.pdf; Operating Temperature: -55 to +125degC; Packaging: Tape and Reel; Published Date: April 2021; Ceramic Type: NP0; Dissipation Factor max.: -; Height: 0.6mm; Mounting Technology: SMT; Size: 0805; Capacitance: 15pF
footprint WCAP-CSGP_0805_H=0.6mm_Wave
footprint WCAP-CSGP_0805_H=0.6mm_Reflow
pins: 1, 2

## 885012007079
designator C?, comment 33pF, 100V
WCAP-CSGP Multilayer Ceramic Chip Capacitor, General Purpose, size 0805, NP0, 33pF, 100V; Manufacturer Part Number: 885012007079; Manufacturer: Wurth Elektronik; Rated Voltage: 100VDC; Isolation Resistance  min.: 10GOhm; Capacitance Tolerance: +/-5%; Technical Reference: NP00805330J100DFCT10000; Q-Factor min.: 1000; ComponentLink1Description: Manufacturer; ComponentLink1URL: http://www.we-online.de; ComponentLink2Description: Datasheet; ComponentLink2URL: https://www.we-online.com/catalog/datasheet/885012007079.pdf; Operating Temperature: -55 to +125degC; Packaging: Tape and Reel; Published Date: April 2021; Ceramic Type: NP0; Dissipation Factor max.: -; Height: 0.6mm; Mounting Technology: SMT; Size: 0805; Capacitance: 33pF
footprint WCAP-CSGP_0805_H=0.6mm_Wave
footprint WCAP-CSGP_0805_H=0.6mm_Reflow
pins: 1, 2

## 885012007080
designator C?, comment 47pF, 100V
WCAP-CSGP Multilayer Ceramic Chip Capacitor, General Purpose, size 0805, NP0, 47pF, 100V; Manufacturer Part Number: 885012007080; Manufacturer: Wurth Elektronik; Rated Voltage: 100VDC; Isolation Resistance  min.: 10GOhm; Capacitance Tolerance: +/-5%; Technical Reference: NP00805470J100DFCT10000; Q-Factor min.: 1000; ComponentLink1Description: Manufacturer; ComponentLink1URL: http://www.we-online.de; ComponentLink2Description: Datasheet; ComponentLink2URL: https://www.we-online.com/catalog/datasheet/885012007080.pdf; Operating Temperature: -55 to +125degC; Packaging: Tape and Reel; Published Date: April 2021; Ceramic Type: NP0; Dissipation Factor max.: -; Height: 0.6mm; Mounting Technology: SMT; Size: 0805; Capacitance: 47pF
footprint WCAP-CSGP_0805_H=0.6mm_Wave
footprint WCAP-CSGP_0805_H=0.6mm_Reflow
pins: 1, 2

## 885012007081
designator C?, comment 68pF, 100V
WCAP-CSGP Multilayer Ceramic Chip Capacitor, General Purpose, size 0805, NP0, 68pF, 100V; Manufacturer Part Number: 885012007081; Manufacturer: Wurth Elektronik; Rated Voltage: 100VDC; Isolation Resistance  min.: 10GOhm; Capacitance Tolerance: +/-5%; Technical Reference: NP00805680J100DFCT10000; Q-Factor min.: 1000; ComponentLink1Description: Manufacturer; ComponentLink1URL: http://www.we-online.de; ComponentLink2Description: Datasheet; ComponentLink2URL: https://www.we-online.com/catalog/datasheet/885012007081.pdf; Operating Temperature: -55 to +125degC; Packaging: Tape and Reel; Published Date: April 2021; Ceramic Type: NP0; Dissipation Factor max.: -; Height: 0.6mm; Mounting Technology: SMT; Size: 0805; Capacitance: 68pF
footprint WCAP-CSGP_0805_H=0.6mm_Wave
footprint WCAP-CSGP_0805_H=0.6mm_Reflow
pins: 1, 2

## 885012007082
designator C?, comment 100pF, 100V
WCAP-CSGP Multilayer Ceramic Chip Capacitor, General Purpose, size 0805, NP0, 100pF, 100V; Manufacturer Part Number: 885012007082; Manufacturer: Wurth Elektronik; Rated Voltage: 100VDC; Isolation Resistance  min.: 10GOhm; Capacitance Tolerance: +/-5%; Technical Reference: NP00805101J100DFCT10000; Q-Factor min.: 1000; ComponentLink1Description: Manufacturer; ComponentLink1URL: http://www.we-online.de; ComponentLink2Description: Datasheet; ComponentLink2URL: https://www.we-online.com/catalog/datasheet/885012007082.pdf; Operating Temperature: -55 to +125degC; Packaging: Tape and Reel; Published Date: April 2021; Ceramic Type: NP0; Dissipation Factor max.: -; Height: 0.6mm; Mounting Technology: SMT; Size: 0805; Capacitance: 100pF
footprint WCAP-CSGP_0805_H=0.6mm_Wave
footprint WCAP-CSGP_0805_H=0.6mm_Reflow
pins: 1, 2

## 885012007083
designator C?, comment 150pF, 100V
WCAP-CSGP Multilayer Ceramic Chip Capacitor, General Purpose, size 0805, NP0, 150pF, 100V; Manufacturer Part Number: 885012007083; Manufacturer: Wurth Elektronik; Rated Voltage: 100VDC; Isolation Resistance  min.: 10GOhm; Capacitance Tolerance: +/-5%; Technical Reference: NP00805151J100DFCT10000; Q-Factor min.: 1000; ComponentLink1Description: Manufacturer; ComponentLink1URL: http://www.we-online.de; ComponentLink2Description: Datasheet; ComponentLink2URL: https://www.we-online.com/catalog/datasheet/885012007083.pdf; Operating Temperature: -55 to +125degC; Packaging: Tape and Reel; Published Date: April 2021; Ceramic Type: NP0; Dissipation Factor max.: -; Height: 0.6mm; Mounting Technology: SMT; Size: 0805; Capacitance: 150pF
footprint WCAP-CSGP_0805_H=0.6mm_Wave
footprint WCAP-CSGP_0805_H=0.6mm_Reflow
pins: 1, 2

## 885012007085
designator C?, comment 330pF, 100V
WCAP-CSGP Multilayer Ceramic Chip Capacitor, General Purpose, size 0805, NP0, 330pF, 100V; Manufacturer Part Number: 885012007085; Manufacturer: Wurth Elektronik; Rated Voltage: 100VDC; Isolation Resistance  min.: 10GOhm; Capacitance Tolerance: +/-5%; Technical Reference: NP00805331J100DFCT10000; Q-Factor min.: 1000; ComponentLink1Description: Manufacturer; ComponentLink1URL: http://www.we-online.de; ComponentLink2Description: Datasheet; ComponentLink2URL: https://www.we-online.com/catalog/datasheet/885012007085.pdf; Operating Temperature: -55 to +125degC; Packaging: Tape and Reel; Published Date: April 2021; Ceramic Type: NP0; Dissipation Factor max.: -; Height: 0.6mm; Mounting Technology: SMT; Size: 0805; Capacitance: 330pF
footprint WCAP-CSGP_0805_H=0.6mm_Wave
footprint WCAP-CSGP_0805_H=0.6mm_Reflow
pins: 1, 2

## 885012007086
designator C?, comment 470pF, 100V
WCAP-CSGP Multilayer Ceramic Chip Capacitor, General Purpose, size 0805, NP0, 470pF, 100V; Manufacturer Part Number: 885012007086; Manufacturer: Wurth Elektronik; Rated Voltage: 100VDC; Isolation Resistance  min.: 10GOhm; Capacitance Tolerance: +/-5%; Technical Reference: NP00805471J100DFCT10000; Q-Factor min.: 1000; ComponentLink1Description: Manufacturer; ComponentLink1URL: http://www.we-online.de; ComponentLink2Description: Datasheet; ComponentLink2URL: https://www.we-online.com/catalog/datasheet/885012007086.pdf; Operating Temperature: -55 to +125degC; Packaging: Tape and Reel; Published Date: April 2021; Ceramic Type: NP0; Dissipation Factor max.: -; Height: 0.8mm; Mounting Technology: SMT; Size: 0805; Capacitance: 470pF
footprint WCAP-CSGP_0805_H=0.8mm_Wave
footprint WCAP-CSGP_0805_H=0.8mm_Reflow
pins: 1, 2

## 885012007087
designator C?, comment 680pF, 100V
WCAP-CSGP Multilayer Ceramic Chip Capacitor, General Purpose, size 0805, NP0, 680pF, 100V; Manufacturer Part Number: 885012007087; Manufacturer: Wurth Elektronik; Rated Voltage: 100VDC; Isolation Resistance  min.: 10GOhm; Capacitance Tolerance: +/-5%; Technical Reference: NP00805681J100DFCT10000; Q-Factor min.: 1000; ComponentLink1Description: Manufacturer; ComponentLink1URL: http://www.we-online.de; ComponentLink2Description: Datasheet; ComponentLink2URL: https://www.we-online.com/catalog/datasheet/885012007087.pdf; Operating Temperature: -55 to +125degC; Packaging: Tape and Reel; Published Date: April 2021; Ceramic Type: NP0; Dissipation Factor max.: -; Height: 0.8mm; Mounting Technology: SMT; Size: 0805; Capacitance: 680pF
footprint WCAP-CSGP_0805_H=0.8mm_Wave
footprint WCAP-CSGP_0805_H=0.8mm_Reflow
pins: 1, 2

## 885012007088
designator C?, comment 1nF, 100V
WCAP-CSGP Multilayer Ceramic Chip Capacitor, General Purpose, size 0805, NP0, 1nF, 100V; Manufacturer Part Number: 885012007088; Manufacturer: Wurth Elektronik; Rated Voltage: 100VDC; Isolation Resistance  min.: 10GOhm; Capacitance Tolerance: +/-5%; Technical Reference: NP00805102J100DFCT10000; Q-Factor min.: 1000; ComponentLink1Description: Manufacturer; ComponentLink1URL: http://www.we-online.de; ComponentLink2Description: Datasheet; ComponentLink2URL: https://www.we-online.com/catalog/datasheet/885012007088.pdf; Operating Temperature: -55 to +125degC; Packaging: Tape and Reel; Published Date: April 2021; Ceramic Type: NP0; Dissipation Factor max.: -; Height: 0.8mm; Mounting Technology: SMT; Size: 0805; Capacitance: 1nF
footprint WCAP-CSGP_0805_H=0.8mm_Wave
footprint WCAP-CSGP_0805_H=0.8mm_Reflow
pins: 1, 2

## 885012007089
designator C?, comment 1.5nF, 100V
WCAP-CSGP Multilayer Ceramic Chip Capacitor, General Purpose, size 0805, NP0, 1.5nF, 100V; Manufacturer Part Number: 885012007089; Manufacturer: Wurth Elektronik; Rated Voltage: 100VDC; Isolation Resistance  min.: 10GOhm; Capacitance Tolerance: +/-5%; Technical Reference: NP00805152J100DFCT10000; Q-Factor min.: 1000; ComponentLink1Description: Manufacturer; ComponentLink1URL: http://www.we-online.de; ComponentLink2Description: Datasheet; ComponentLink2URL: https://www.we-online.com/catalog/datasheet/885012007089.pdf; Operating Temperature: -55 to +125degC; Packaging: Tape and Reel; Published Date: April 2021; Ceramic Type: NP0; Dissipation Factor max.: -; Height: 0.8mm; Mounting Technology: SMT; Size: 0805; Capacitance: 1.5nF
footprint WCAP-CSGP_0805_H=0.8mm_Wave
footprint WCAP-CSGP_0805_H=0.8mm_Reflow
pins: 1, 2

## 885012007091
designator C?, comment 3.3nF, 100V
WCAP-CSGP Multilayer Ceramic Chip Capacitor, General Purpose, size 0805, NP0, 3.3nF, 100V; Manufacturer Part Number: 885012007091; Manufacturer: Wurth Elektronik; Rated Voltage: 100VDC; Isolation Resistance  min.: 10GOhm; Capacitance Tolerance: +/-5%; Technical Reference: NP00805332J100DFCT10000; Q-Factor min.: 1000; ComponentLink1Description: Manufacturer; ComponentLink1URL: http://www.we-online.de; ComponentLink2Description: Datasheet; ComponentLink2URL: https://www.we-online.com/catalog/datasheet/885012007091.pdf; Operating Temperature: -55 to +125degC; Packaging: Tape and Reel; Published Date: April 2021; Ceramic Type: NP0; Dissipation Factor max.: -; Height: 1.25mm; Mounting Technology: SMT; Size: 0805; Capacitance: 3.3nF
footprint WCAP-CSGP_0805_H=1.25mm
pins: 1, 2

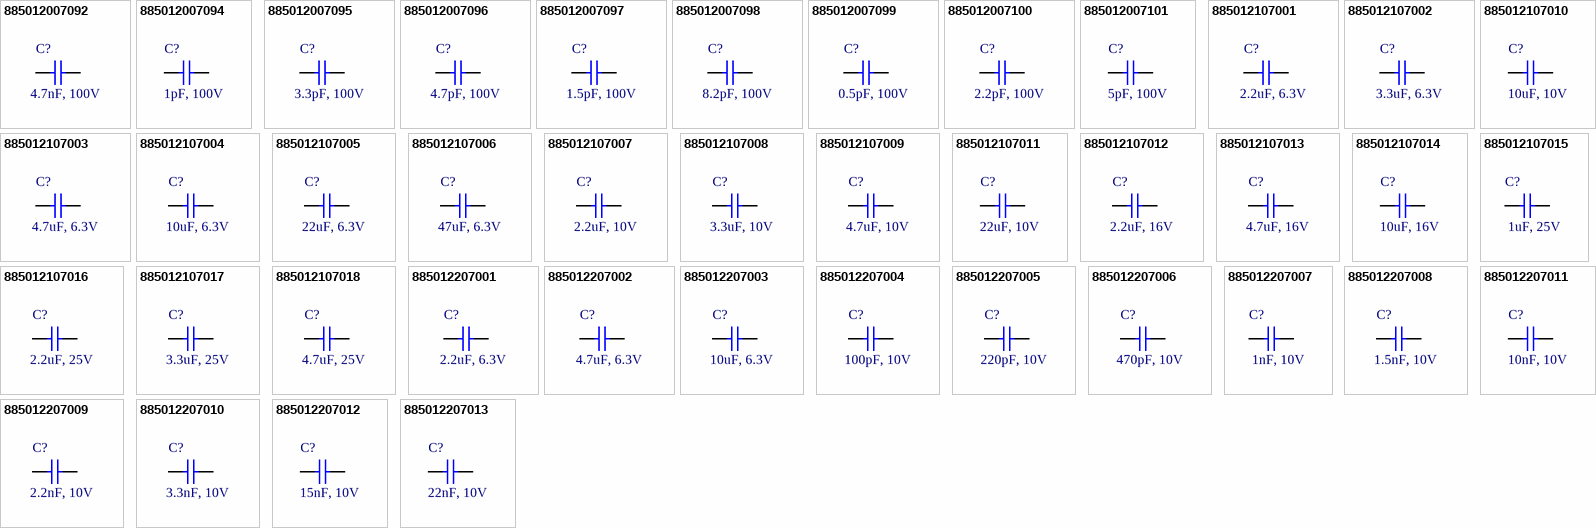
[diagram p13: symbols 885012007092 to 885012207013]

## 885012007092
designator C?, comment 4.7nF, 100V
WCAP-CSGP Multilayer Ceramic Chip Capacitor, General Purpose, size 0805, NP0, 4.7nF, 100V; Manufacturer Part Number: 885012007092; Manufacturer: Wurth Elektronik; Rated Voltage: 100VDC; Isolation Resistance  min.: 10GOhm; Capacitance Tolerance: +/-5%; Technical Reference: NP00805472J100DFCT10000; Q-Factor min.: 1000; ComponentLink1Description: Manufacturer; ComponentLink1URL: http://www.we-online.de; ComponentLink2Description: Datasheet; ComponentLink2URL: https://www.we-online.com/catalog/datasheet/885012007092.pdf; Operating Temperature: -55 to +125degC; Packaging: Tape and Reel; Published Date: April 2021; Ceramic Type: NP0; Dissipation Factor max.: -; Height: 1.25mm; Mounting Technology: SMT; Size: 0805; Capacitance: 4.7nF
footprint WCAP-CSGP_0805_H=1.25mm
pins: 1, 2

## 885012007094
designator C?, comment 1pF, 100V
WCAP-CSGP Multilayer Ceramic Chip Capacitor, General Purpose, size 0805, NP0, 1pF, 100V; Manufacturer Part Number: 885012007094; Manufacturer: Wurth Elektronik; Rated Voltage: 100VDC; Isolation Resistance  min.: 10GOhm; Capacitance Tolerance: +/-0.25pF; Technical Reference: NP008051R0C100DFCT10000; Q-Factor min.: 400+20C; ComponentLink1Description: Manufacturer; ComponentLink1URL: http://www.we-online.de; ComponentLink2Description: Datasheet; ComponentLink2URL: https://www.we-online.com/catalog/datasheet/885012007094.pdf; Operating Temperature: -55 to +125degC; Packaging: Tape and Reel; Published Date: April 2021; Ceramic Type: NP0; Dissipation Factor max.: -; Height: 0.6mm; Mounting Technology: SMT; Size: 0805; Capacitance: 1pF
footprint WCAP-CSGP_0805_H=0.6mm_Wave
footprint WCAP-CSGP_0805_H=0.6mm_Reflow
pins: 1, 2

## 885012007095
designator C?, comment 3.3pF, 100V
WCAP-CSGP Multilayer Ceramic Chip Capacitor, General Purpose, size 0805, NP0, 3.3pF, 100V; Manufacturer Part Number: 885012007095; Manufacturer: Wurth Elektronik; Rated Voltage: 100VDC; Isolation Resistance  min.: 10GOhm; Capacitance Tolerance: +/-0.25pF; Technical Reference: NP008053R3C100DFCT10000; Q-Factor min.: 400+20C; ComponentLink1Description: Manufacturer; ComponentLink1URL: http://www.we-online.de; ComponentLink2Description: Datasheet; ComponentLink2URL: https://www.we-online.com/catalog/datasheet/885012007095.pdf; Operating Temperature: -55 to +125degC; Packaging: Tape and Reel; Published Date: April 2021; Ceramic Type: NP0; Dissipation Factor max.: -; Height: 0.6mm; Mounting Technology: SMT; Size: 0805; Capacitance: 3.3pF
footprint WCAP-CSGP_0805_H=0.6mm_Wave
footprint WCAP-CSGP_0805_H=0.6mm_Reflow
pins: 1, 2

## 885012007096
designator C?, comment 4.7pF, 100V
WCAP-CSGP Multilayer Ceramic Chip Capacitor, General Purpose, size 0805, NP0, 4.7pF, 100V; Manufacturer Part Number: 885012007096; Manufacturer: Wurth Elektronik; Rated Voltage: 100VDC; Isolation Resistance  min.: 10GOhm; Capacitance Tolerance: +/-0.25pF; Technical Reference: NP008054R7C100DFCT10000; Q-Factor min.: 400+20C; ComponentLink1Description: Manufacturer; ComponentLink1URL: http://www.we-online.de; ComponentLink2Description: Datasheet; ComponentLink2URL: https://www.we-online.com/catalog/datasheet/885012007096.pdf; Operating Temperature: -55 to +125degC; Packaging: Tape and Reel; Published Date: April 2021; Ceramic Type: NP0; Dissipation Factor max.: -; Height: 0.6mm; Mounting Technology: SMT; Size: 0805; Capacitance: 4.7pF
footprint WCAP-CSGP_0805_H=0.6mm_Wave
footprint WCAP-CSGP_0805_H=0.6mm_Reflow
pins: 1, 2